# EAGLE library part DMC564040R (library DMC564040R)
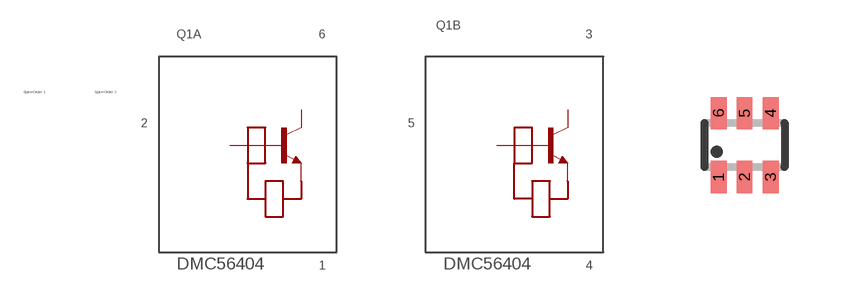
[diagram p0: symbol with the pads of DMC564040R; footprint DMC564040R]

Designator prefix -

## DMC564040R  [DMC564040R]
1  1  pas
2  2  pas
3  3  pas
4  4  pas
5  5  pas
6  6  pas

## Footprint DMC564040R (pad centres in mm)
smd 0.4 x 0.8: 1 -18.43,0.47; 2 -17.78,0.47; 3 -17.13,0.47; 4 -17.13,2.07; 5 -17.78,2.07; 6 -18.43,2.07